# Altium integrated library USB1046-XX-XXXX-X-X-X_revB.IntLib: 1 symbol
Pins are listed as number, name and electrical type; pins without a type are passive.

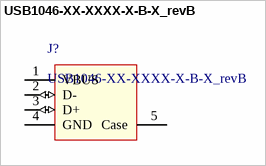
[diagram p0: symbol USB1046-XX-XXXX-X-B-X_revB]

## USB1046-XX-XXXX-X-B-X_revB
designator J?
USB Receptecal, Type A, 4 Pin, Top Mount, SMT, Horizontal, with Kinked Shell Stakes
footprint USB1046-XX-XXXX-X-B-X_revB (USB Receptecal, Type A, 4 Pin, Top Mount, SMT, Horizontal, with Kinked Shell Stakes, for 1.6mm thick PCB)
pins: 1 VBUS (power), 2 D- (io), 3 D+ (io), 4 GND (power), 5 Case